# Altium footprint library TO-220GOR.PcbLib: 1 footprints
Each footprint in its own frame and in the unit in brackets; x right, y up, seen from the top. Pads: shape width x height; smd on the part's side, far side on the other; paste and mask are expansions set on the pad; w line width, h text height; cw(c..) or ccw(c..) is an arc to the next point about the centre after c.
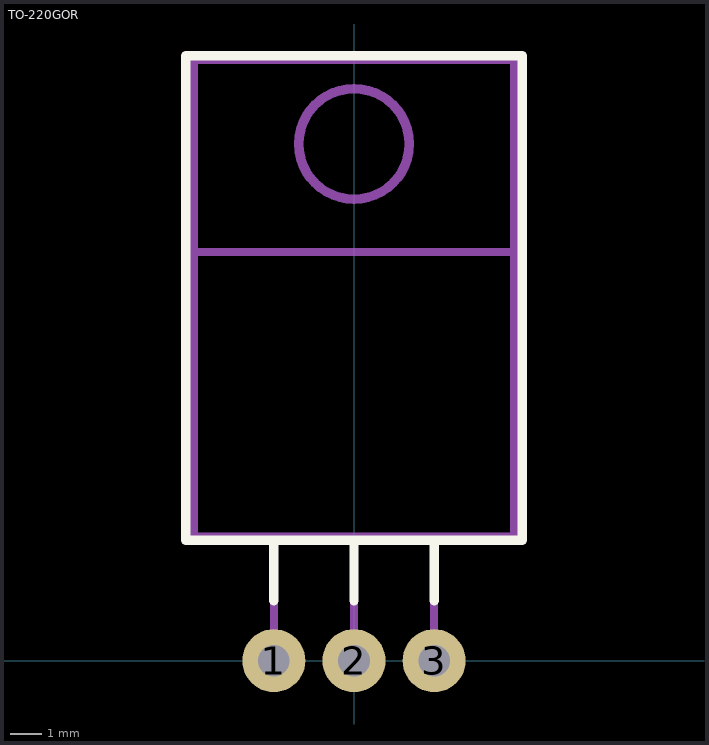
[diagram p0: the footprint, top view; thin cyan lines are the x and y axes]

## TO-220GOR [mm]
height 1.8
pads (3):
  round 2 hole 1: 1(-2.54,0) 2(0,0) 3(2.54,0)
Top Overlay:
  lines w0.3: -2.54,1.905 -2.54,3.81 ; 0,1.905 0,3.81 ; 2.54,1.905 2.54,3.81 ; -5.334,3.81 -5.334,19.177 5.334,19.177 5.334,3.81 -5.334,3.81
Mechanical 13:
  circle w0.3: c0,16.383 r1.75
  lines w0.254: -5.08,12.954 5.08,12.954 ; -2.54,0 -2.54,3.937 0,3.937 0,0 ; 2.54,0 2.54,3.937 ; -5.08,3.937 -5.08,19.05 5.08,19.05 5.08,3.937 -5.08,3.937
  text ".Designator" at -2.921,6.604 h1.5
3D body: height 4.2, standoff -3, extent -5.08,-0.381 5.08,19.109